# Altium footprint library Transient Voltage Suppressors.PcbLib: 3 footprints
Each footprint in its own frame and in the unit in brackets; x right, y up, seen from the top. Pads: shape width x height; smd on the part's side, far side on the other; paste and mask are expansions set on the pad; w line width, h text height; cw(c..) or ccw(c..) is an arc to the next point about the centre after c.
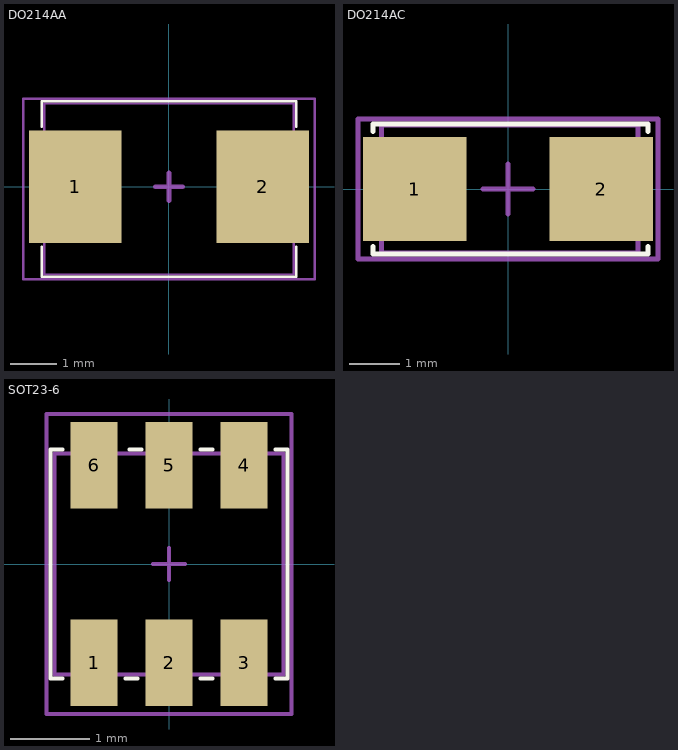
[diagram p0: the footprints below, top view; thin cyan lines are the x and y axes]

## DO214AA [mm]
pads (2):
  rect 2x2.43 smd mask+0.05: 1(-2.03,0) 2(2.03,0)
Top Overlay:
  lines w0.05: -2.75,-1.3 -2.75,-1.95 2.75,-1.95 2.75,-1.3 ; -2.75,1.3 -2.75,1.85 2.75,1.85 2.75,1.3
Top 3D Body:
  lines w0.05: -2.7,-1.9 -2.7,1.8 2.7,1.8 2.7,-1.9 -2.7,-1.9
Top Component Center:
  lines w0.05: -3.15,-2 3.15,-2 3.15,1.9 -3.15,1.9 -3.15,1.25 -3.15,-2
  lines w0.1: -0.3,0 0.3,0 ; 0,-0.3 0,0.3
Top Designator:
  lines w0.05: -3.15,-2 -3.15,1.9 3.15,1.9 3.15,-2 -3.15,-2
  text ".Designator" at -0.15,-0.083 h0.5
3D body "SK56.STEP": height 2.18, standoff -0.02, extent -2.7,-1.9 2.7,1.8

## DO214AC [mm]
pads (2):
  rect 2.06x2.07 smd mask+0.05: 1(-1.865,0) 2(1.865,0)
Top Overlay:
  lines w0.1: -2.7,-1.146 -2.7,-1.3 -2.6,-1.3 2.8,-1.3 2.8,-1.146 ; -2.7,1.146 -2.7,1.3 2.7,1.3 2.8,1.3 2.8,1.146
Top 3D Body:
  lines w0.1: -2.534,-1.28 -2.534,1.283 2.604,1.283 2.604,-1.28 -2.534,-1.28
Top Component Center:
  lines w0.1: -0.5,0 0.5,0 ; 0,-0.5 0,0.5 ; -3,-1.4 3,-1.4 3,1.4 -3,1.4 -3,-1.4
Top Designator:
  lines w0.1: -3,-1.4 3,-1.4 3,1.4 -3,1.4 -3,-1.4
  text ".Designator" at -0.3,-0.133 h0.5
3D body "RS1D.STEP": height 2.5, standoff 0, extent -2.535,-1.28 2.605,1.28

## SOT23-6 [mm]
pads (6):
  rect 0.6x1.1 smd mask+0.05: 1(-0.95,-1.25) 2(0,-1.25) 3(0.95,-1.25) 4(0.95,1.25) 5(0,1.25) 6(-0.95,1.25)
Top Overlay:
  lines w0.05: -1.35,-1.45 -1.5,-1.45 -1.5,1.45 -1.35,1.45 ; -0.55,-1.45 -0.4,-1.45 ; -0.5,1.45 -0.35,1.45 ; 0.4,-1.45 0.55,-1.45 ; 0.4,1.45 0.55,1.45 ; 1.35,-1.45 1.5,-1.45 1.5,1.45 1.35,1.45
Top 3D Body:
  lines w0.05: -1.45,-1.4 1.45,-1.4 1.45,1.4 -1.45,1.4 -1.45,-1.4
Top Component Center:
  lines w0.05: -0.2,0 0.2,0 ; 0,-0.2 0,0.2 ; -1.55,-1.9 1.55,-1.9 1.55,1.9 -1.55,1.9 -1.55,-1.9
Top Designator:
  lines w0.05: -1.55,-1.9 1.55,-1.9 1.55,1.9 -1.55,1.9 -1.55,-1.9
  text ".Designator" at -0.3,0.017 h0.5
3D body "TS5A3159DBVR.STEP": height 1.45, standoff 0, extent -1.45,-1.4 1.45,1.4